# Altium schematic symbol library auirl7732s2.SchLib: 1 symbol
Pins are listed as number, name and electrical type; pins without a type are passive.

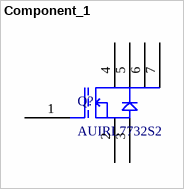
[diagram p0: symbol Component_1]

## Component_1
designator Q?, comment AUIRL7732S2
footprint Q? (auirl7732s2)
pins: 1, 2 10, 3 14, 4 11, 5 12, 6 13, 7 13